# EAGLE library part AD8400 (library ads)
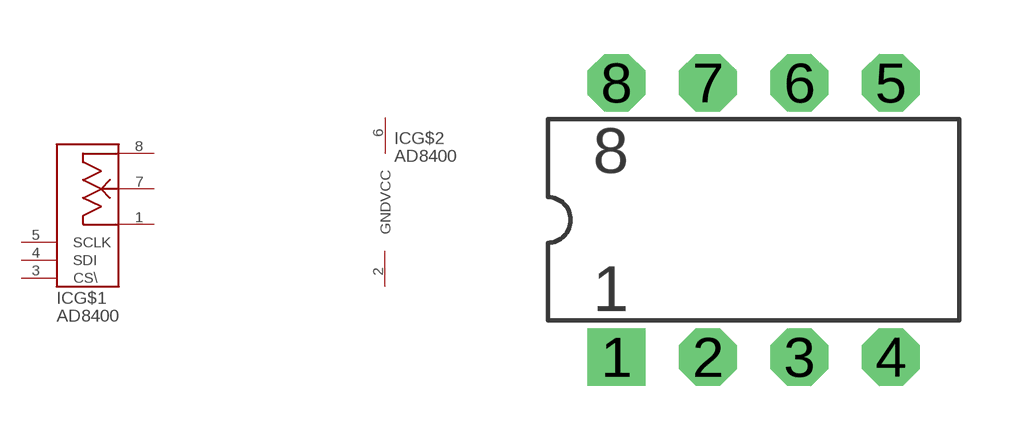
[diagram p13: symbol with the pads of DIP08; footprint DIP08]

Designator prefix IC; gates G$1=AD8400 G$2=POWER2

## AD8400  [DIP08]
1  G$1:B
2  G$2:GND  pwr
3  G$1:CS\  in
4  G$1:SDI  in
5  G$1:SCLK  in
6  G$2:VCC  pwr
7  G$1:W
8  G$1:A

## Footprint DIP08 (pad centres in mm)
drill 0.813 pad 1.6 square: 1 1.27,-3.81
drill 0.813 pad 1.6 octagon: 2 3.81,-3.81; 3 6.35,-3.81; 4 8.89,-3.81; 5 8.89,3.81; 6 6.35,3.81; 7 3.81,3.81; 8 1.27,3.81